# Altium schematic symbol library STEREO_JACK_SW.Schlib: 1 symbol
Pins are listed as number, name and electrical type; pins without a type are passive.

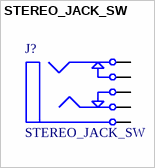
[diagram p0: symbol STEREO_JACK_SW]

## STEREO_JACK_SW
designator J?
3-Conductor Jack with 2 break contacts (normals) and 2 auxiliary make contacts
pins: 1, 2, 3, 4, 5